# EAGLE library part B3W-9000-Y1N (library SamacSys_Parts)
Illuminated Tactile Switches Illuminated Ylw LED White Cap Source: Datasheet <http://www.mouser.com/ds/2/307/en-b3w-9-11824.pdf>
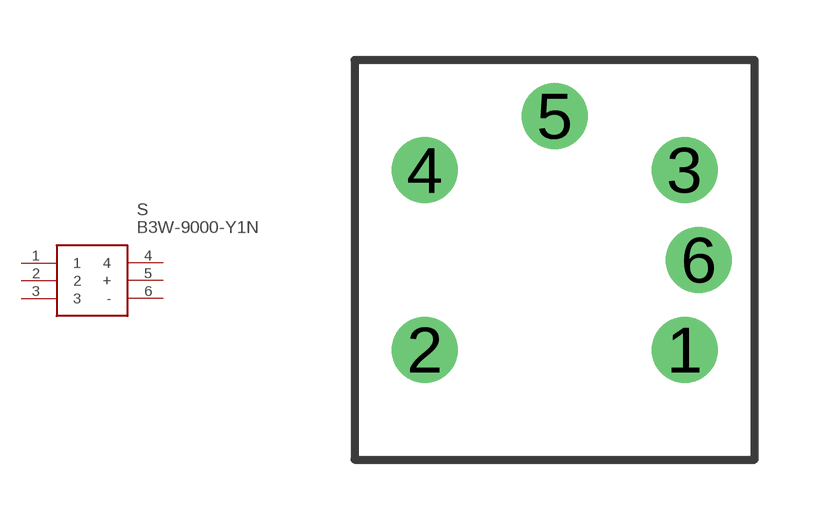
[diagram p4: symbol with the pads of B3W-9_1-LED; footprint B3W-9_1-LED]

Designator prefix S

## B3W-9000-Y1N (Allied_Number: 70176005; Allied_Price-Stock: https://www.alliedelec.com/omron-electronic-components-b3w-9000-y1n/70176005/; Description: Illuminated Tactile Switches Illuminated Ylw LED White Cap; Height: mm; Manufacturer_Name: Omron Electronics; Manufacturer_Part_Number: B3W-9000-Y1N; Mouser_Part_Number: 653-B3W-9000-Y1N; Mouser_Price-Stock: https://www.mouser.com/Search/Refine.aspx?Keyword=653-B3W-9000-Y1N; RS_Part_Number: 0492777P; RS_Price-Stock: http://uk.rs-online.com/web/p/products/0492777P)  [B3W-9_1-LED]
1  1
2  2
3  3
4  4
5  +
6  -

## Footprint B3W-9_1-LED (pad centres in mm)
B3W-9_1-LED
drill 1.1 pad 1.65: 1 3.25,-2.25; 2 -3.25,-2.25; 3 3.25,2.25; 4 -3.25,2.25; 5 0,3.6; 6 3.6,0